# EAGLE library part FH12-12S-0.5SH_55__LCSC (library lcsc_parts)
Description: FFC/FPC Connector 12 Position 0.5mm Pitch Bottom Contact Surface Mount, Right Angle -40℃~+85℃ Manufacturer: HRS MPN: FH12-12S-0.5SH(55) LCSC Part: C88360 Category: FFC, FPC (Flat Flexible) Connector Assemblies Datasheet: https://datasheet.lcsc.com/datasheet/pdf/6e8da5fecf0f520788a618d6da1919a1.pdf?productCode=C88360
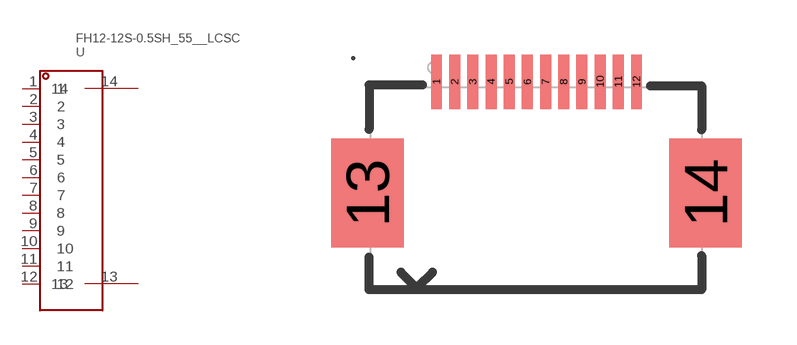
[diagram p2: symbol with the pads of FPC-SMD_FH12-12S-0.5SH-55; footprint FPC-SMD_FH12-12S-0.5SH-55]

Designator prefix U

## FH12-12S-0.5SH_55__LCSC (CATEGORY: FFC, FPC (Flat Flexible) Connector Assemblies; CONTACT_MATERIAL: Phosphor bronze; CONTACT_PLATING: Gold; CONTACT_TYPE: Bottom Contact; DATASHEET: https://datasheet.lcsc.com/datasheet/pdf/6e8da5fecf0f520788a618d6da1919a1.pdf?productCode=C88360; DESCRIPTION: FFC/FPC Connector 12 Position 0.5mm Pitch Bottom Contact Surface Mount, Right Angle -40℃~+85℃; FFC_FCB_THICKNESS: 0.3mm; LCSC_PART: C88360; LCSC_STOCK: 2086; LOCKING_FEATURE: Hinged Lid; MANUFACTURER: HRS; MOUNTING_TYPE: Surface Mount, Right Angle; MPN: FH12-12S-0.5SH(55); NUMBER_OF_CONTACTS: 12P; OPERATING_TEMPERATURE: -40℃~+85℃; PARTNO: FH12-12S-0.5SH(55); PITCH: 0.5mm; PRICING_1000: $0.2129/unit @ 1000; PRICING_50: $0.3088/unit @ 50)  [FPC-SMD_FH12-12S-0.5SH-55]
1  1
2  2
3  3
4  4
5  5
6  6
7  7
8  8
9  9
10  10
11  11
12  12
13  13
14  14

## Footprint FPC-SMD_FH12-12S-0.5SH-55 (pad centres in mm)
smd 0.3 x 1.5: 1 -2.75,1.53; 2 -2.25,1.53; 3 -1.75,1.53; 4 -1.25,1.53; 5 -0.75,1.53; 6 -0.25,1.53; 7 0.25,1.53; 8 0.75,1.53; 9 1.25,1.53; 10 1.75,1.53; 11 2.25,1.53; 12 2.75,1.53
smd 2 x 3: 13 -4.65,-1.53; 14 4.65,-1.53